# EAGLE library part 80CE558 (library oldchips)
Single chip microcontroller 80CE558 80CE557E4 (83*, 89*)
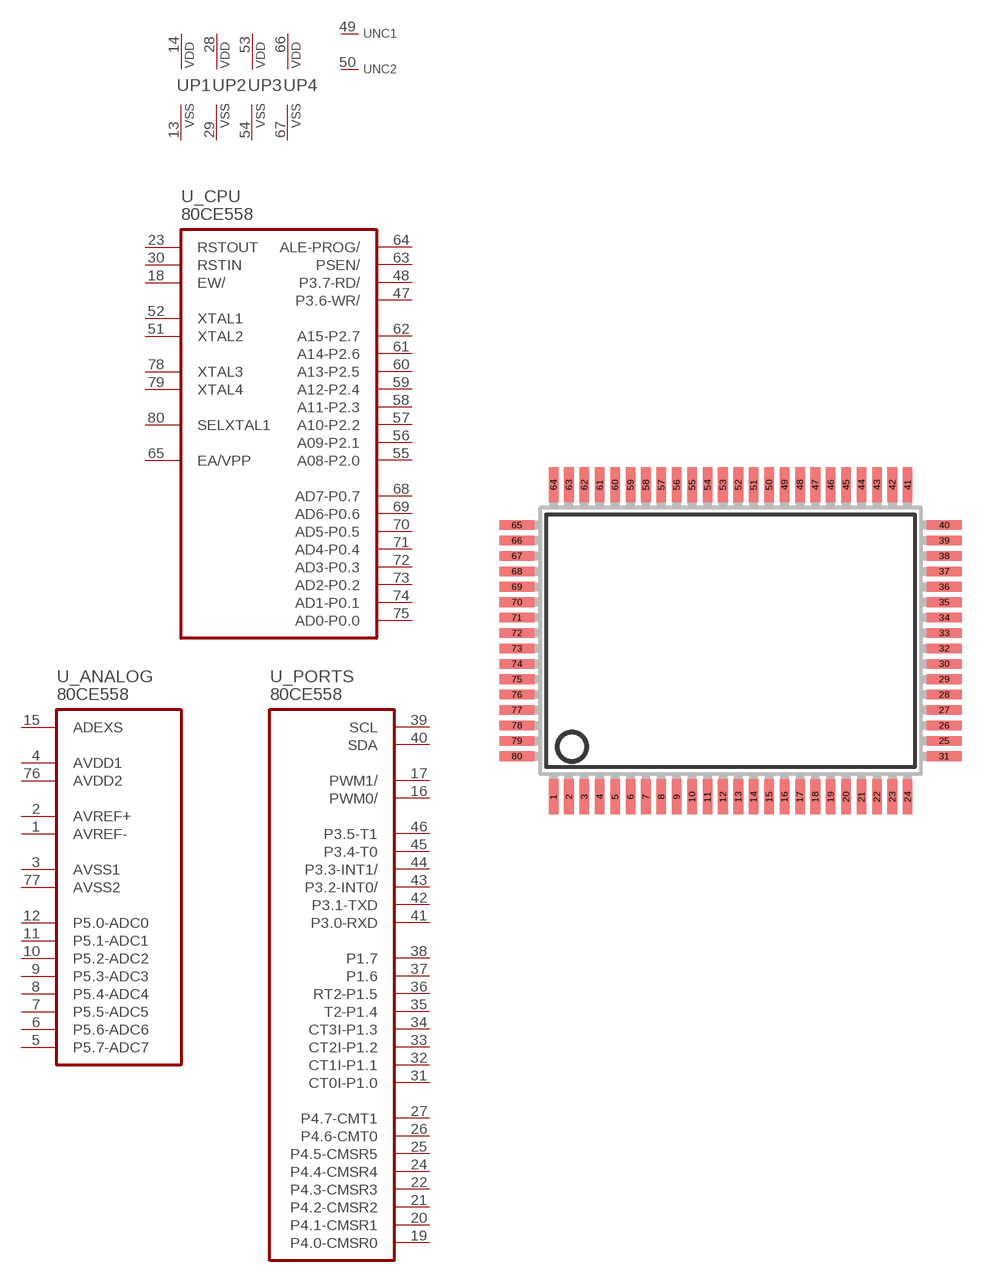
[diagram p8: symbol with the pads of QFP80R; footprint QFP80R]

Designator prefix U; gates _CPU=558_CPU _ANALOG=558_ANALOG _PORTS=558_PORTS P1=VDDVSS P2=VDDVSS P3=VDDVSS P4=VDDVSS NC1=NC NC2=NC

## 80CE558  [QFP80R]
1  _ANALOG:AVREF-  in
2  _ANALOG:AVREF+  in
3  _ANALOG:AVSS1  in
4  _ANALOG:AVDD1  in
5  _ANALOG:P5.7-ADC7
6  _ANALOG:P5.6-ADC6
7  _ANALOG:P5.5-ADC5
8  _ANALOG:P5.4-ADC4
9  _ANALOG:P5.3-ADC3
10  _ANALOG:P5.2-ADC2
11  _ANALOG:P5.1-ADC1
12  _ANALOG:P5.0-ADC0
13  P1:VSS  pwr
14  P1:VDD  pwr
15  _ANALOG:ADEXS  in
16  _PORTS:PWM0/  out
17  _PORTS:PWM1/  out
18  _CPU:EW/  in
19  _PORTS:P4.0-CMSR0
20  _PORTS:P4.1-CMSR1
21  _PORTS:P4.2-CMSR2
22  _PORTS:P4.3-CMSR3
23  _CPU:RSTOUT  out
24  _PORTS:P4.4-CMSR4
25  _PORTS:P4.5-CMSR5
26  _PORTS:P4.6-CMT0
27  _PORTS:P4.7-CMT1
28  P2:VDD  pwr
29  P2:VSS  pwr
30  _CPU:RSTIN  in
31  _PORTS:CT0I-P1.0
32  _PORTS:CT1I-P1.1
33  _PORTS:CT2I-P1.2
34  _PORTS:CT3I-P1.3
35  _PORTS:T2-P1.4
36  _PORTS:RT2-P1.5
37  _PORTS:P1.6
38  _PORTS:P1.7
39  _PORTS:SCL
40  _PORTS:SDA
41  _PORTS:P3.0-RXD
42  _PORTS:P3.1-TXD
43  _PORTS:P3.2-INT0/
44  _PORTS:P3.3-INT1/
45  _PORTS:P3.4-T0
46  _PORTS:P3.5-T1
47  _CPU:P3.6-WR/
48  _CPU:P3.7-RD/
49  NC1:NC  nc
50  NC2:NC  nc
51  _CPU:XTAL2  out
52  _CPU:XTAL1  in
53  P3:VDD  pwr
54  P3:VSS  pwr
55  _CPU:A08-P2.0
56  _CPU:A09-P2.1
57  _CPU:A10-P2.2
58  _CPU:A11-P2.3
59  _CPU:A12-P2.4
60  _CPU:A13-P2.5
61  _CPU:A14-P2.6
62  _CPU:A15-P2.7
63  _CPU:PSEN/  out
64  _CPU:ALE-PROG/  out
65  _CPU:EA/VPP  in
66  P4:VDD  pwr
67  P4:VSS  pwr
68  _CPU:AD7-P0.7
69  _CPU:AD6-P0.6
70  _CPU:AD5-P0.5
71  _CPU:AD4-P0.4
72  _CPU:AD3-P0.3
73  _CPU:AD2-P0.2
74  _CPU:AD1-P0.1
75  _CPU:AD0-P0.0
76  _ANALOG:AVDD2  in
77  _ANALOG:AVSS2  in
78  _CPU:XTAL3  in
79  _CPU:XTAL4  out
80  _CPU:SELXTAL1  in

## Footprint QFP80R (pad centres in mm)
smd 0.5 x 1.8: 1 -9.2,-8.1; 2 -8.4,-8.1; 3 -7.6,-8.1; 4 -6.8,-8.1; 5 -6,-8.1; 6 -5.2,-8.1; 7 -4.4,-8.1; 8 -3.6,-8.1; 9 -2.8,-8.1; 10 -2,-8.1; 11 -1.2,-8.1; 12 -0.4,-8.1; 13 0.4,-8.1; 14 1.2,-8.1; 15 2,-8.1; 16 2.8,-8.1; 17 3.6,-8.1; 18 4.4,-8.1; 19 5.2,-8.1; 20 6,-8.1; 21 6.8,-8.1; 22 7.6,-8.1; 23 8.4,-8.1; 24 9.2,-8.1; 41 9.2,8.1; 42 8.4,8.1; 43 7.6,8.1; 44 6.8,8.1; 45 6,8.1; 46 5.2,8.1; 47 4.4,8.1; 48 3.6,8.1; 49 2.8,8.1; 50 2,8.1; 51 1.2,8.1; 52 0.4,8.1; 53 -0.4,8.1; 54 -1.2,8.1; 55 -2,8.1; 56 -2.8,8.1; 57 -3.6,8.1; 58 -4.4,8.1; 59 -5.2,8.1; 60 -6,8.1; 61 -6.8,8.1; 62 -7.6,8.1; 63 -8.4,8.1; 64 -9.2,8.1
smd 1.8 x 0.5: 25 11.1,-5.2; 26 11.1,-4.4; 27 11.1,-3.6; 28 11.1,-2.8; 29 11.1,-2; 30 11.1,-1.2; 31 11.1,-6; 32 11.1,-0.4; 33 11.1,0.4; 34 11.1,1.2; 35 11.1,2; 36 11.1,2.8; 37 11.1,3.6; 38 11.1,4.4; 39 11.1,5.2; 40 11.1,6; 65 -11.1,6; 66 -11.1,5.2; 67 -11.1,4.4; 68 -11.1,3.6; 69 -11.1,2.8; 70 -11.1,2; 71 -11.1,1.2; 72 -11.1,0.4; 73 -11.1,-0.4; 74 -11.1,-1.2; 75 -11.1,-2; 76 -11.1,-2.8; 77 -11.1,-3.6; 78 -11.1,-4.4; 79 -11.1,-5.2; 80 -11.1,-6